# EAGLE library part MAX517-DIP (library ece3724)
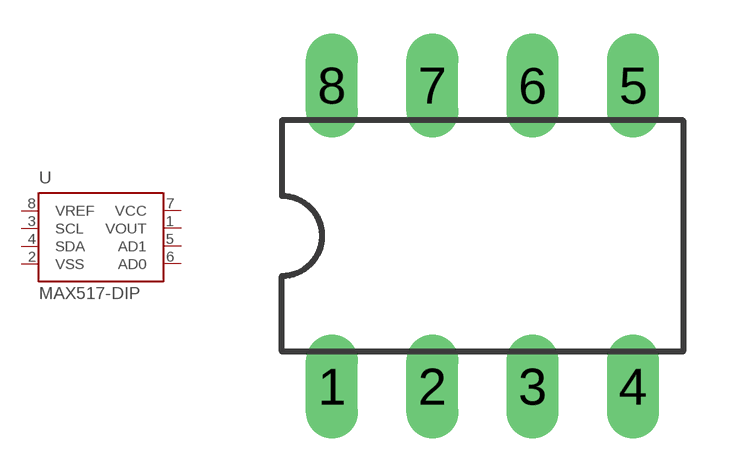
[diagram p3: symbol with the pads of DIL08; footprint DIL08]

Designator prefix -

## MAX517-DIP  [DIL08]
1  VOUT  out
2  VSS  pwr
3  SCL
4  SDA
5  AD1  in
6  AD0  in
7  VCC  pwr
8  VREF  in

## Footprint DIL08 (pad centres in mm)
drill 0.813 long: 1 -3.81,-3.81; 2 -1.27,-3.81; 3 1.27,-3.81; 4 3.81,-3.81; 5 3.81,3.81; 6 1.27,3.81; 7 -1.27,3.81; 8 -3.81,3.81